# Altium schematic symbol library RES_DEMO.SchLib: 1 symbol
Pins are listed as number, name and electrical type; pins without a type are passive.

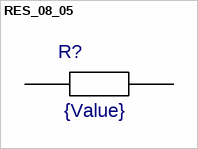
[diagram p0: symbol RES_08_05]

## RES_08_05
designator R?  value {Value}  (hidden comment: *)
footprint SMD_08_05
pins: 1, 2